# Altium footprint library SE868.PcbLib: 1 footprints
Each footprint in its own frame and in the unit in brackets; x right, y up, seen from the top. Pads: shape width x height; smd on the part's side, far side on the other; paste and mask are expansions set on the pad; w line width, h text height; cw(c..) or ccw(c..) is an arc to the next point about the centre after c.
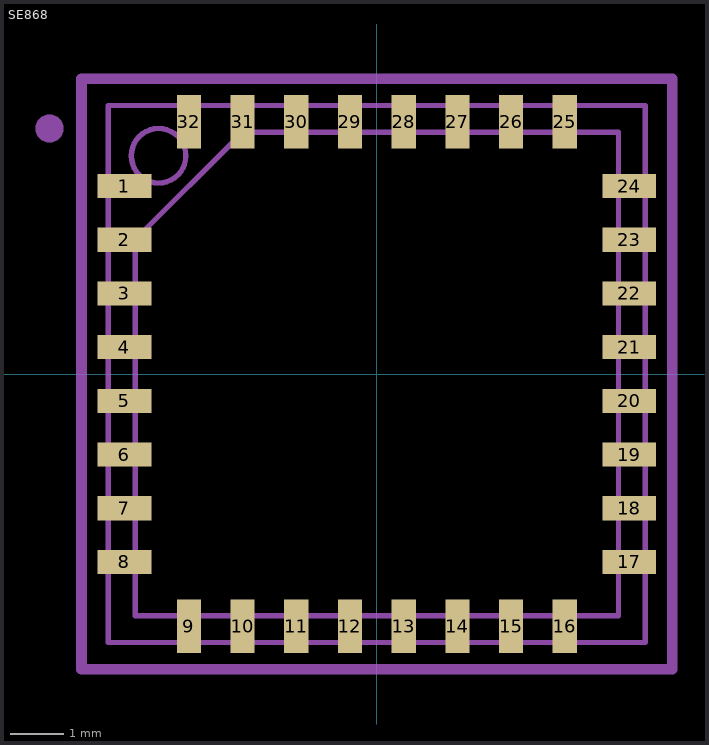
[diagram p0: the footprint, top view; thin cyan lines are the x and y axes]

## SE868 [mm] "SE868"
height 2.77
pads (32):
  rect 1x0.45 smd paste+0 mask+0.05: 1(-4.7,3.5) 2(-4.7,2.5) 3(-4.7,1.5) 4(-4.7,0.5) 5(-4.7,-0.5) 6(-4.7,-1.5) 7(-4.7,-2.5) 8(-4.7,-3.5) 17(4.7,-3.5) 18(4.7,-2.5) 19(4.7,-1.5) 20(4.7,-0.5) 21(4.7,0.5) 22(4.7,1.5) 23(4.7,2.5) 24(4.7,3.5)
  rect 0.45x1 smd paste+0 mask+0.05: 9(-3.5,-4.7) 10(-2.5,-4.7) 11(-1.5,-4.7) 12(-0.5,-4.7) 13(0.5,-4.7) 14(1.5,-4.7) 15(2.5,-4.7) 16(3.5,-4.7) 25(3.5,4.7) 26(2.5,4.7) 27(1.5,4.7) 28(0.5,4.7) 29(-0.5,4.7) 30(-1.5,4.7) 31(-2.5,4.7) 32(-3.5,4.7)
Mechanical 1:
  region: -5.842,4.572 -5.842,4.623 -5.881,4.716 -5.952,4.787 -6.045,4.826 -6.096,4.826 -6.147,4.826 -6.24,4.787 -6.311,4.716 -6.35,4.623 -6.35,4.572 -6.35,4.521 -6.311,4.428 -6.24,4.357 -6.147,4.318 -6.096,4.318 -6.045,4.318 -5.952,4.357 -5.881,4.428 -5.842,4.521
  lines w0.1: -5.5,-5.5 5.5,-5.5 5.5,5.5 -5.5,5.5 -5.5,-5.5 ; -5,-5 5,-5 5,5 -5,5 -5,-5 ; -4.572,4.064 cw(c-4.064,4.064) -4.064,4.572 cw(c-4.064,4.064) -3.556,4.064 cw(c-4.064,4.064) -4.064,3.556 cw(c-4.064,4.064) -4.572,4.064 ; -4.5,-4.5 -4.5,2.5 -2.5,4.5 4.5,4.5 4.5,-4.5 -4.5,-4.5
  lines w0.2: -5.5,-5.5 5.5,-5.5 5.5,5.5 -5.5,5.5 -5.5,-5.5
  text "'.Designator'" at -7.755,-0.75 h1.5
3D body "se868.stp": height 2.63, standoff 0, extent -5.5,-5.5 5.5,5.5